# EAGLE library part TH8056KDC (library X893)
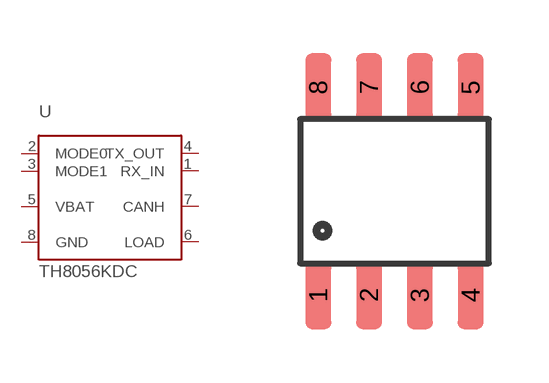
[diagram p232: symbol with the pads of SO08; footprint SO08]

Designator prefix U

## TH8056KDC  [SO08]
1  RX_IN
2  MODE0
3  MODE1
4  TX_OUT
5  VBAT
6  LOAD
7  CANH
8  GND

## Footprint SO08 (pad centres in mm)
Small Outline Package Fits JEDEC packages (narrow SOIC-8)
smd 0.65 x 1.7: 1 -1.905,-2.6; 2 -0.635,-2.6; 3 0.635,-2.6; 4 1.905,-2.6; 5 1.905,2.6; 6 0.635,2.6; 7 -0.635,2.6; 8 -1.905,2.6